# Altium schematic symbol library WE-FB.SchLib: 63 symbols (part 2 of 2)
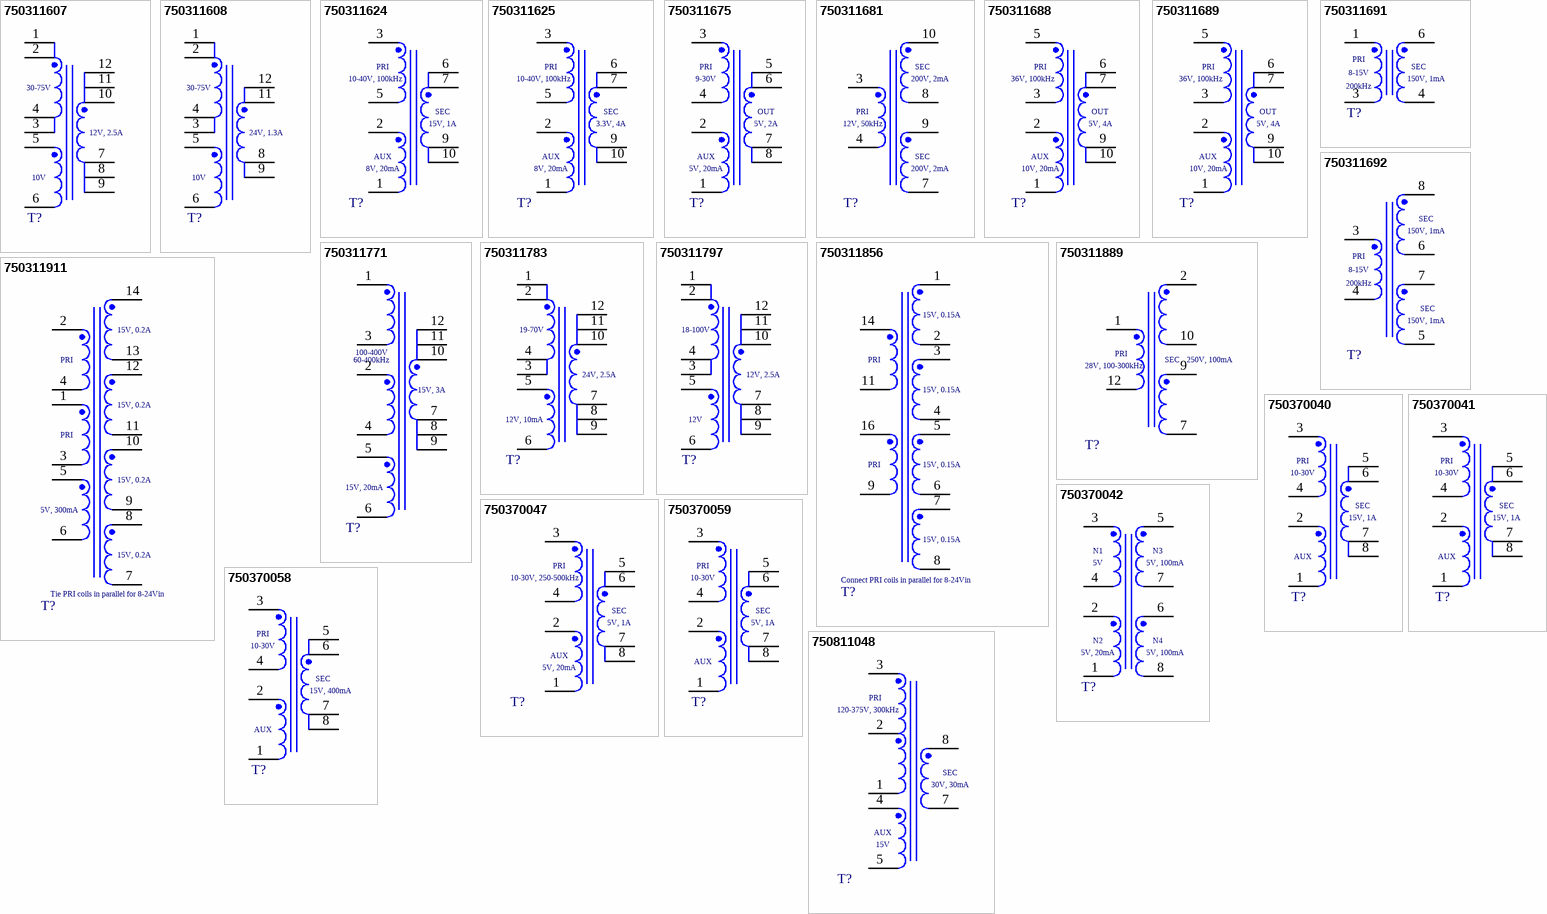
[diagram p2: symbols 750311607 to 750811048]

## 750311688
designator T?, comment 36Vin, Uo1 = 5V/4A  (value not drawn)
WE-FB Flyback Transformer suitable for LT3575 & LT3748, SMT, EP13, 36Vin, Uo1 = 5V/4A, 20W; Manufacturer Part Number: 750311688; Manufacturer: Wurth Elektronik; Auxiliary Voltage: 10V; Inductance: 50uH; Input Voltage: 36VDC; Insulation Test Voltage: 1500VAC; Leakage Inductance: 1.2uH; Output Current 1: 4A; Output Voltage 1: 5V; Saturation Current: 3.1A; Turns Ratio: 5:1:2; Category: Transformers For DC-DC Converter; Match Code: WE-FB; ComponentLink1Description: Website Link; ComponentLink1URL: https://www.we-online.com/redexpert/article/750311688?ad; ComponentLink2Description: Datasheet Link; ComponentLink2URL: https://www.we-online.com/redexpert/spec/750311688?ad; Mount: Surface Mount; Operating Temperature Max: 125°C; Operating Temperature Min: -40°C; Packaging: Tape and Reel; Case/Size Code: EP13; Length: 17.75mm; Width: 13.46mm; Height: 12.7mm; IC Reference: LT3575 & LT3748; Output Power: 20W
footprint WE-FB_EP13
simulation model 750311688
pins: 1, 2, 3, 5, 6, 7, 9, 10
text: 36V, 100kHz; PRI; OUT; 5V, 4A; AUX; 10V, 20mA

## 750311689
designator T?, comment 36Vin, Uo1 = 5V/4A  (value not drawn)
WE-FB Flyback Transformer suitable for LT3575 & LT3748, SMT, EP13, 36Vin, Uo1 = 5V/4A, 20W; Manufacturer Part Number: 750311689; Manufacturer: Wurth Elektronik; Auxiliary Voltage: 10V; Inductance: 50uH; Input Voltage: 36VDC; Insulation Test Voltage: 2500VAC; Leakage Inductance: 1.2uH; Output Current 1: 4A; Output Voltage 1: 5V; Saturation Current: 3.7A; Turns Ratio: 4:1:2; Category: Transformers For DC-DC Converter; Match Code: WE-FB; ComponentLink1Description: Website Link; ComponentLink1URL: https://www.we-online.com/redexpert/article/750311689?ad; ComponentLink2Description: Datasheet Link; ComponentLink2URL: https://www.we-online.com/redexpert/spec/750311689?ad; Mount: Surface Mount; Operating Temperature Max: 125°C; Operating Temperature Min: -40°C; Packaging: Tape and Reel; Case/Size Code: EP13; Length: 17.75mm; Width: 13.46mm; Height: 12.7mm; IC Reference: LT3575 & LT3748; Output Power: 20W
footprint WE-FB_EP13
simulation model 750311689
pins: 1, 2, 3, 5, 6, 7, 9, 10
text: 36V, 100kHz; PRI; OUT; 5V, 4A; AUX; 10V, 20mA

## 750311691
designator T?, comment 8-15Vin, Uo1 = 150V/0.001A  (value not drawn)
WE-FB Flyback Transformer suitable for LT3748, SMT, EP5, 8-15Vin, Uo1 = 150V/0.001A, 0.15W; Manufacturer Part Number: 750311691; Manufacturer: Wurth Elektronik; Inductance: 60uH; Input Voltage: 8-15VDC; Insulation Test Voltage: 1500VAC; Leakage Inductance: 1uH; Output Current 1: 0.001A; Output Voltage 1: 150V; Saturation Current: 0.25A; Turns Ratio: 1:5; Category: Transformers For DC-DC Converter; Match Code: WE-FB; ComponentLink1Description: Website Link; ComponentLink1URL: https://www.we-online.com/redexpert/article/750311691?ad; ComponentLink2Description: Datasheet Link; ComponentLink2URL: https://www.we-online.com/redexpert/spec/750311691?ad; Mount: Surface Mount; Operating Temperature Max: 125°C; Operating Temperature Min: -40°C; Packaging: Tape and Reel; Case/Size Code: EP5; Length: 8.26mm; Width: 6.6mm; Height: 5.59mm; IC Reference: LT3748; Output Power: 0.15W
footprint WE-FB_EP5
simulation model 750311691
pins: 1, 3, 4, 6
text: PRI; 8-15V; SEC; 150V, 1mA; 200kHz

## 750311692
designator T?, comment 8-15Vin, Uo1 = 150V/0.001A, Uo2 = 150V/0.001A  (value not drawn)
WE-FB Flyback Transformer suitable for LT3748, SMT, EP7, 8-15Vin, Uo1 = 150V/0.001A, Uo2 = 150V/0.001A, 0.3W; Manufacturer Part Number: 750311692; Manufacturer: Wurth Elektronik; Inductance: 80uH; Input Voltage: 8-15VDC; Insulation Test Voltage: 1500VAC; Leakage Inductance: 2uH; Output Current 1: 0.001A; Output Voltage 1: 150V; Saturation Current: 1A; Turns Ratio: 1:5:5; Category: Transformers For DC-DC Converter; Match Code: WE-FB; ComponentLink1Description: Website Link; ComponentLink1URL: https://www.we-online.com/redexpert/article/750311692?ad; ComponentLink2Description: Datasheet Link; ComponentLink2URL: https://www.we-online.com/redexpert/spec/750311692?ad; Mount: Surface Mount; Operating Temperature Max: 125°C; Operating Temperature Min: -40°C; Packaging: Tape and Reel; Case/Size Code: EP7; Length: 9.14mm; Width: 9.78mm; Height: 10.54mm; IC Reference: LT3748; Output Current 2: 0.001A; Output Power: 0.3W; Output Voltage 2: 150V
footprint WE-FB_EP7
simulation model 750311692
pins: 3, 4, 5, 6, 7, 8
text: 150V, 1mA; SEC; PRI; 8-15V; 200kHz

## 750311771
designator T?, comment 100-400Vin, Uo1 = 15V/3A  (value not drawn)
WE-FB Flyback Transformer suitable for LT3748, SMT, EFD25, 100-400Vin, Uo1 = 15V/3A, 45W; Manufacturer Part Number: 750311771; Manufacturer: Wurth Elektronik; Auxiliary Voltage: 15V; Inductance: 500uH; Input Voltage: 100-400VDC; Insulation Test Voltage: 2000VAC; Leakage Inductance: 10uH; Output Current 1: 3A; Saturation Current: 2.5A; Turns Ratio: 3:3:1:1; Category: Transformers For DC-DC Converter; Match Code: WE-FB; ComponentLink1Description: Website Link; ComponentLink1URL: https://www.we-online.com/redexpert/article/750311771?ad; ComponentLink2Description: Datasheet Link; ComponentLink2URL: https://www.we-online.com/redexpert/spec/750311771?ad; Mount: Surface Mount; Operating Temperature Max: 125°C; Operating Temperature Min: -40°C; Packaging: Tape and Reel; Case/Size Code: EFD25; Length: 32.31mm; Width: 27.03mm; Height: 13.69mm; IC Reference: LT3748; Output Power: 45W; Output Voltage 1: 15V
footprint WE-FB_EFD25
simulation model 750311771
pins: 1, 2, 3, 4, 5, 6, 7, 8, 9, 10, 11, 12
text: 100-400V; 60-400kHz; 15V, 3A; 15V, 20mA

## 750311783
designator T?, comment 19-70Vin, Uo1 = 24V/2.5A  (value not drawn)
WE-FB Flyback Transformer suitable for LT3748, SMT, EFD25, 19-70Vin, Uo1 = 24V/2.5A, 60W; Manufacturer Part Number: 750311783; Manufacturer: Wurth Elektronik; Auxiliary Voltage: 12V; Inductance: 20uH; Input Voltage: 19-70VDC; Insulation Test Voltage: 1500VAC; Leakage Inductance: 0.225uH; Output Current 1: 2.5A; Output Voltage 1: 24V; Saturation Current: 16A; Turns Ratio: 1.5:1:0.5; Category: Transformers For DC-DC Converter; Match Code: WE-FB; ComponentLink1Description: Website Link; ComponentLink1URL: https://www.we-online.com/redexpert/article/750311783?ad; ComponentLink2Description: Datasheet Link; ComponentLink2URL: https://www.we-online.com/redexpert/spec/750311783?ad; Mount: Surface Mount; Operating Temperature Max: 125°C; Operating Temperature Min: -40°C; Packaging: Tape and Reel; Case/Size Code: EFD25; Length: 32.31mm; Width: 27.03mm; Height: 13.69mm; IC Reference: LT3748; Output Power: 60W
footprint WE-FB_EFD25
simulation model 750311783
pins: 1, 2, 3, 4, 5, 6, 7, 8, 9, 10, 11, 12
text: 19-70V; 24V, 2.5A; 12V, 10mA

## 750311797
designator T?, comment 18-100Vin, Uo1 = 12V/2.5A  (value not drawn)
WE-FB Flyback Transformer suitable for LT3748, SMT, EFD20, 18-100Vin, Uo1 = 12V/2.5A, 30W; Manufacturer Part Number: 750311797; Manufacturer: Wurth Elektronik; Auxiliary Voltage: 12V; Inductance: 14uH; Input Voltage: 18-100VDC; Insulation Test Voltage: 4000VAC; Leakage Inductance: 0.21uH; Output Current 1: 2.5A; Saturation Current: 11.5A; Turns Ratio: 2.5:1:1; Category: Transformers For DC-DC Converter; Match Code: WE-FB; ComponentLink1Description: Website Link; ComponentLink1URL: https://www.we-online.com/redexpert/article/750311797?ad; ComponentLink2Description: Datasheet Link; ComponentLink2URL: https://www.we-online.com/redexpert/spec/750311797?ad; Mount: Surface Mount; Operating Temperature Max: 125°C; Operating Temperature Min: -40°C; Packaging: Tape and Reel; Case/Size Code: EFD20; Length: 29.08mm; Width: 23.11mm; Height: 11.43mm; IC Reference: LT3748; Output Power: 30W; Output Voltage 1: 12V
footprint WE-FB_EFD20
simulation model 750311797
pins: 1, 2, 3, 4, 5, 6, 7, 8, 9, 10, 11, 12
text: 18-100V; 12V, 2.5A

## 750311856
designator T?, comment 8-24Vin, Uo1 = 15V/0.15A, Uo2 = 15V/0.15A, Uo3 = 15V/0.15A, Uo4 = 15V/0.15A  (value not drawn)
WE-FB Flyback Transformer suitable for LT3575 & LT3748, SMT, EP13, 8-24Vin, Uo1 = 15V/0.15A, Uo2 = 15V/0.15A, Uo3 = 15V/0.15A, Uo4 = 15V/0.15A, 12W; Manufacturer Part Number: 750311856; Manufacturer: Wurth Elektronik; Inductance: 3.8uH; Input Voltage: 8-24VDC; Insulation Test Voltage: 1500VAC; Leakage Inductance: 0.4uH; Output Current 1: 0.15A; Output Voltage 1: 15V; Saturation Current: 12A; Turns Ratio: 1:1:4:4:4:4; Category: Transformers For DC-DC Converter; Match Code: WE-FB; ComponentLink1Description: Website Link; ComponentLink1URL: https://www.we-online.com/redexpert/article/750311856?ad; ComponentLink2Description: Datasheet Link; ComponentLink2URL: https://www.we-online.com/redexpert/spec/750311856?ad; Mount: Surface Mount; Operating Temperature Max: 125°C; Operating Temperature Min: -40°C; Packaging: Tape and Reel; Case/Size Code: EP13; Length: 17.17mm; Width: 13.97mm; Height: 12.7mm; IC Reference: LT3575 & LT3748; Output Current 2: 0.15A; Output Current 3: 0.15A; Output Current 4: 0.15A; Output Power: 12W; Output Voltage 2: 15V; Output Voltage 3: 15V; Output Voltage 4: 15V
footprint WE-FB_EP13_750311856
simulation model 750311856
pins: 1, 2, 3, 4, 5, 6, 7, 8, 9, 11, 14, 16
text: 15V, 0.15A; PRI; Connect PRI coils in parallel for 8-24Vin

## 750311889
designator T?, comment 28Vin, Uo1 = 250V/0.1A  (value not drawn)
WE-FB Flyback Transformer suitable for LT3748, SMT, EFD25, 28Vin, Uo1 = 250V/0.1A, 25W; Manufacturer Part Number: 750311889; Manufacturer: Wurth Elektronik; Inductance: 37uH; Input Voltage: 28VDC; Insulation Test Voltage: 500VAC; Leakage Inductance: 0.16uH; Output Current 1: 0.1A; Output Voltage 1: 250V; Saturation Current: 2.95A; Turns Ratio: 1:2.5:2.5; Category: Transformers For DC-DC Converter; Match Code: WE-FB; ComponentLink1Description: Website Link; ComponentLink1URL: https://www.we-online.com/redexpert/article/750311889?ad; ComponentLink2Description: Datasheet Link; ComponentLink2URL: https://www.we-online.com/redexpert/spec/750311889?ad; Mount: Surface Mount; Operating Temperature Max: 125°C; Operating Temperature Min: -40°C; Packaging: Tape and Reel; Case/Size Code: EFD25; Length: 32.31mm; Width: 27.03mm; Height: 13.69mm; IC Reference: LT3748; Output Power: 25W
footprint WE-FB_EFD25
simulation model 750311889
pins: 1, 2, 7, 9, 10, 12
text: 28V, 100-300kHz; PRI; SEC; 250V, 100mA

## 750311911
designator T?, comment 8-24Vin, Uo1 = 15V/0.2A, Uo2 = 15V/0.2A, Uo3 = 15V/0.2A, Uo4 = 15V/0.2A  (value not drawn)
WE-FB Flyback Transformer suitable for LT3748, THT, EE20/10/6, 8-24Vin, Uo1 = 15V/0.2A, Uo2 = 15V/0.2A, Uo3 = 15V/0.2A, Uo4 = 15V/0.2A, 12W; Manufacturer Part Number: 750311911; Manufacturer: Wurth Elektronik; Auxiliary Voltage: 5V; Inductance: 6.78uH; Input Voltage: 8-24VDC; Insulation Test Voltage: 1500VAC; Leakage Inductance: 0.2uH; Output Current 1: 0.2A; Output Voltage 1: 15V; Saturation Current: 13A; Turns Ratio: 1:3:3:3:3:1; Category: Transformers For DC-DC Converter; Match Code: WE-FB; ComponentLink1Description: Website Link; ComponentLink1URL: https://www.we-online.com/redexpert/article/750311911?ad; ComponentLink2Description: Datasheet Link; ComponentLink2URL: https://www.we-online.com/redexpert/spec/750311911?ad; Mount: Through Hole; Operating Temperature Max: 125°C; Operating Temperature Min: -40°C; Packaging: Tray; Case/Size Code: EE20/10/6; Length: 25mm; Width: 22.2mm; Height: 16mm; IC Reference: LT3748; Output Current 2: 0.2A; Output Current 3: 0.2A; Output Current 4: 0.2A; Output Power: 12W; Output Voltage 2: 15V; Output Voltage 3: 15V; Output Voltage 4: 15V
footprint WE-FB_EE20/10/6
simulation model 750311911
pins: 1, 2, 3, 4, 5, 6, 7, 8, 9, 10, 11, 12, 13, 14
text: 15V, 0.2A; PRI; 5V, 300mA; Tie PRI coils in parallel for 8-24Vin

## 750370040
designator T?, comment 10-30Vin, Uo1 = 5V/1A  (value not drawn)
WE-FB Flyback Transformer suitable for LT3574 & LT3573, SMT, EP7, 10-30Vin, Uo1 = 5V/1A, 5W; Manufacturer Part Number: 750370040; Manufacturer: Wurth Elektronik; Auxiliary Voltage: 5V; Inductance: 30uH; Input Voltage: 10-30VDC; Insulation Test Voltage: 1500VAC; Leakage Inductance: 1uH; Output Current 1: 1A; Saturation Current: 1.7A; Turns Ratio: 3:1:1; Category: Transformers For DC-DC Converter; Match Code: WE-FB; ComponentLink1Description: Website Link; ComponentLink1URL: https://www.we-online.com/redexpert/article/750370040?ad; ComponentLink2Description: Datasheet Link; ComponentLink2URL: https://www.we-online.com/redexpert/spec/750370040?ad; Mount: Surface Mount; Operating Temperature Max: 125°C; Operating Temperature Min: -40°C; Packaging: Tape and Reel; Case/Size Code: EP7; Length: 9.14mm; Width: 9.78mm; Height: 10.54mm; IC Reference: LT3574 & LT3573; Output Power: 5W; Output Voltage 1: 5V
footprint WE-FB_EP7
simulation model 750370040
pins: 1, 2, 3, 4, 5, 6, 7, 8
text: PRI; 10-30V; SEC; 15V, 1A; AUX

## 750370041
designator T?, comment 10-30Vin, Uo1 = 5V/1A  (value not drawn)
WE-FB Flyback Transformer suitable for LT3574 & LT3573, SMT, EP7, 10-30Vin, Uo1 = 5V/1A, 5W; Manufacturer Part Number: 750370041; Manufacturer: Wurth Elektronik; Auxiliary Voltage: 5V; Inductance: 50uH; Input Voltage: 10-30VDC; Insulation Test Voltage: 1500VAC; Leakage Inductance: 1uH; Output Current 1: 1A; Saturation Current: 1.6A; Turns Ratio: 3:1:1; Category: Transformers For DC-DC Converter; Match Code: WE-FB; ComponentLink1Description: Website Link; ComponentLink1URL: https://www.we-online.com/redexpert/article/750370041?ad; ComponentLink2Description: Datasheet Link; ComponentLink2URL: https://www.we-online.com/redexpert/spec/750370041?ad; Mount: Surface Mount; Operating Temperature Max: 125°C; Operating Temperature Min: -40°C; Packaging: Tape and Reel; Case/Size Code: EP7; Length: 9.14mm; Width: 9.78mm; Height: 10.54mm; IC Reference: LT3574 & LT3573; Output Power: 5W; Output Voltage 1: 5V
footprint WE-FB_EP7
simulation model 750370041
pins: 1, 2, 3, 4, 5, 6, 7, 8
text: PRI; 10-30V; SEC; 15V, 1A; AUX

## 750370042
designator T?, comment 5Vin, Uo1 = 5V/0.1A, Uo2 = 5V/0.1A  (value not drawn)
WE-FB Flyback Transformer suitable for LT3573, SMT, ER9.5, 5Vin, Uo1 = 5V/0.1A, Uo2 = 5V/0.1A, 1W; Manufacturer Part Number: 750370042; Manufacturer: Wurth Elektronik; Auxiliary Voltage: 5V; Inductance: 15uH; Input Voltage: 5VDC; Insulation Test Voltage: 1500VAC; Leakage Inductance: 0.6uH; Output Current 1: 0.1A; Saturation Current: 1.5A; Turns Ratio: 1:1:1:1; Category: Transformers For DC-DC Converter; Match Code: WE-FB; ComponentLink1Description: Website Link; ComponentLink1URL: https://www.we-online.com/redexpert/article/750370042?ad; ComponentLink2Description: Datasheet Link; ComponentLink2URL: https://www.we-online.com/redexpert/spec/750370042?ad; Mount: Surface Mount; Operating Temperature Max: 125°C; Operating Temperature Min: -40°C; Packaging: Tape and Reel; Case/Size Code: ER9.5; Length: 12.95mm; Width: 10.41mm; Height: 5.97mm; IC Reference: LT3573; Output Current 2: 0.1A; Output Power: 1W; Output Voltage 1: 5V; Output Voltage 2: 5V
footprint WE-FB_ER9.5
simulation model 750370042
pins: 1, 2, 3, 4, 5, 6, 7, 8
text: N1; N3; 5V, 100mA; N2; 5V, 20mA; N4

## 750370047
designator T?, comment 10-30Vin, Uo1 = 5V/1A  (value not drawn)
WE-FB Flyback Transformer suitable for LT3574 & LT3573, SMT, EP7, 10-30Vin, Uo1 = 5V/1A, 5W; Manufacturer Part Number: 750370047; Manufacturer: Wurth Elektronik; Auxiliary Voltage: 5V; Inductance: 30uH; Input Voltage: 10-30VDC; Insulation Test Voltage: 1500VAC; Leakage Inductance: 1uH; Output Current 1: 1A; Saturation Current: 1.7A; Turns Ratio: 3:1:1; Category: Transformers For DC-DC Converter; Match Code: WE-FB; ComponentLink1Description: Website Link; ComponentLink1URL: https://www.we-online.com/redexpert/article/750370047?ad; ComponentLink2Description: Datasheet Link; ComponentLink2URL: https://www.we-online.com/redexpert/spec/750370047?ad; Mount: Surface Mount; Operating Temperature Max: 125°C; Operating Temperature Min: -40°C; Packaging: Tape and Reel; Case/Size Code: EP7; Length: 13.35mm; Width: 10.8mm; Height: 9.14mm; IC Reference: LT3574 & LT3573; Output Power: 5W; Output Voltage 1: 5V
footprint WE-FB_EP7_750370047
simulation model 750370047
pins: 1, 2, 3, 4, 5, 6, 7, 8
text: 10-30V, 250-500kHz; PRI; SEC; 5V, 1A; AUX; 5V, 20mA

## 750370058
designator T?, comment 10-30Vin, Uo1 = 15V/0.4A  (value not drawn)
WE-FB Flyback Transformer suitable for LT3573, SMT, EP7, 10-30Vin, Uo1 = 15V/0.4A, 6W; Manufacturer Part Number: 750370058; Manufacturer: Wurth Elektronik; Auxiliary Voltage: 5V; Inductance: 25uH; Input Voltage: 10-30VDC; Insulation Test Voltage: 1500VAC; Leakage Inductance: 0.3uH; Output Current 1: 0.4A; Output Voltage 1: 15V; Saturation Current: 2A; Turns Ratio: 1:1:0.333; Category: Transformers For DC-DC Converter; Match Code: WE-FB; ComponentLink1Description: Website Link; ComponentLink1URL: https://www.we-online.com/redexpert/article/750370058?ad; ComponentLink2Description: Datasheet Link; ComponentLink2URL: https://www.we-online.com/redexpert/spec/750370058?ad; Mount: Surface Mount; Operating Temperature Max: 125°C; Operating Temperature Min: -40°C; Packaging: Tape and Reel; Case/Size Code: EP7; Length: 13.35mm; Width: 10.8mm; Height: 9.14mm; IC Reference: LT3573; Output Power: 6W
footprint WE-FB_EP7_750370058
simulation model 750370058
pins: 1, 2, 3, 4, 5, 6, 7, 8
text: PRI; 10-30V; SEC; 15V, 400mA; AUX

## 750370059
designator T?, comment 10-30Vin, Uo1 = 5V/1A  (value not drawn)
WE-FB Flyback Transformer suitable for LT3573, SMT, EP7, 10-30Vin, Uo1 = 5V/1A, 6W; Manufacturer Part Number: 750370059; Manufacturer: Wurth Elektronik; Auxiliary Voltage: 5V; Inductance: 50uH; Input Voltage: 10-30VDC; Insulation Test Voltage: 1500VAC; Leakage Inductance: 1uH; Output Current 1: 1A; Saturation Current: 1.6A; Turns Ratio: 3:1:1; Category: Transformers For DC-DC Converter; Match Code: WE-FB; ComponentLink1Description: Website Link; ComponentLink1URL: https://www.we-online.com/redexpert/article/750370059?ad; ComponentLink2Description: Datasheet Link; ComponentLink2URL: https://www.we-online.com/redexpert/spec/750370059?ad; Mount: Surface Mount; Operating Temperature Max: 125°C; Operating Temperature Min: -40°C; Packaging: Tape and Reel; Case/Size Code: EP7; Length: 13.35mm; Width: 10.8mm; Height: 9.14mm; IC Reference: LT3573; Output Power: 6W; Output Voltage 1: 5V
footprint WE-FB_EP7_750370059
simulation model 750370059
pins: 1, 2, 3, 4, 5, 6, 7, 8
text: PRI; 10-30V; SEC; 5V, 1A; AUX

## 750811048
designator T?, comment 120-375Vin, Uo1 = 30V/0.3A  (value not drawn)
WE-FB Flyback Transformer suitable for LT3748, THT, EE16/8/5, 120-375Vin, Uo1 = 30V/0.3A, 9W; Manufacturer Part Number: 750811048; Manufacturer: Wurth Elektronik; Auxiliary Voltage: 15V; Inductance: 1500uH; Input Voltage: 120-375VDC; Insulation Test Voltage: 4500VAC; Leakage Inductance: 35uH; Output Current 1: 0.3A; Output Voltage 1: 30V; Saturation Current: 0.65A; Turns Ratio: 4.5:1:2.26; Category: Transformers For DC-DC Converter; Match Code: WE-FB; ComponentLink1Description: Website Link; ComponentLink1URL: https://www.we-online.com/redexpert/article/750811048?ad; ComponentLink2Description: Datasheet Link; ComponentLink2URL: https://www.we-online.com/redexpert/spec/750811048?ad; Mount: Through Hole; Operating Temperature Max: 125°C; Operating Temperature Min: -40°C; Packaging: Tray; Case/Size Code: EE16/8/5; Length: 24.38mm; Width: 20.32mm; Height: 16mm; IC Reference: LT3748; Output Power: 9W
footprint WE-FB_EE16/8/5
simulation model 750811048
pins: 1, 2, 3, 4, 5, 7, 8
text: 120-375V, 300kHz; PRI; SEC; 30V, 30mA; AUX